# EAGLE library part CONN_SAS_SATA_29P (library GPLIB_CONN)
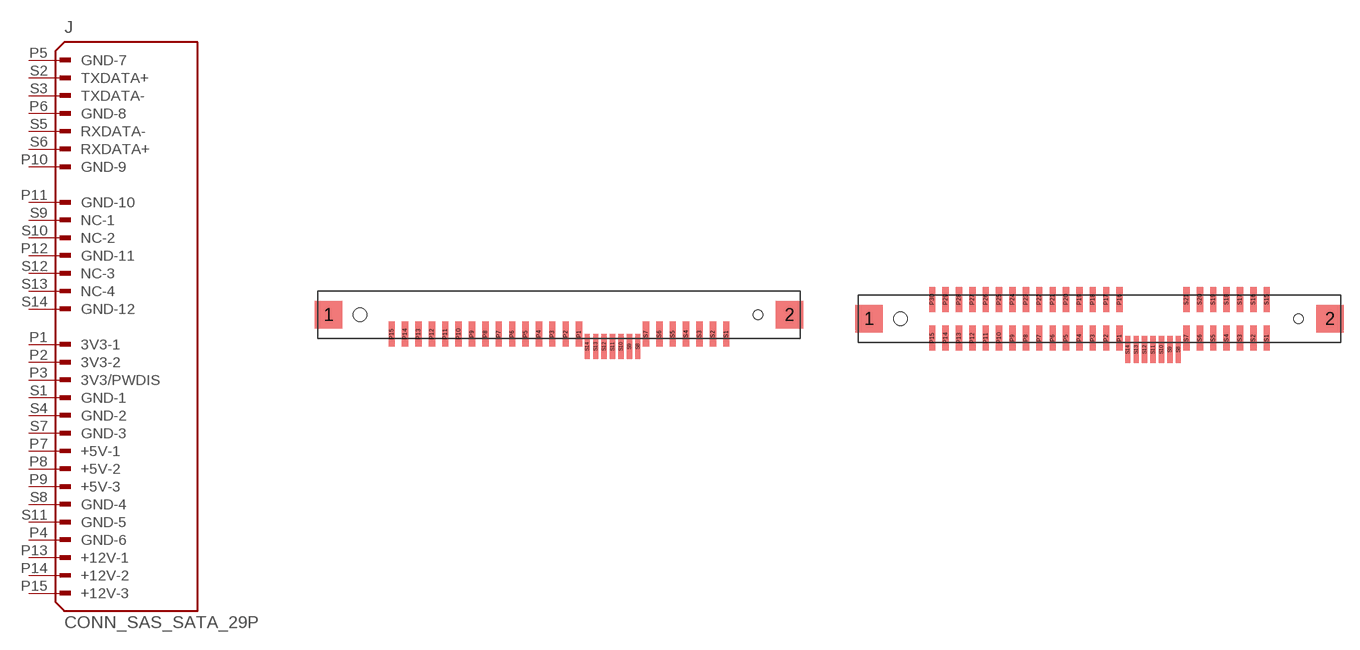
[diagram p7: symbol with the pads of CONN_29P_SAS_RECEPTACLE_SMT; footprints CONN_29P_SAS_RECEPTACLE_SMT, CONN_29P_SAS_RECEPTACLE_SMT_V2]

Designator prefix J

## CONN_SAS_SATA_29P_10077259  [CONN_29P_SAS_RECEPTACLE_SMT]
P1  3V3-1  pas
P2  3V3-2  pas
P3  3V3/PWDIS  pas
P4  GND-6  pas
P5  GND-7  pas
P6  GND-8  pas
P7  +5V-1  pas
P8  +5V-2  pas
P9  +5V-3  pas
P10  GND-9  pas
P11  GND-10  pas
P12  GND-11  pas
P13  +12V-1  pas
P14  +12V-2  pas
P15  +12V-3  pas
S1  GND-1  pas
S2  TXDATA+  pas
S3  TXDATA-  pas
S4  GND-2  pas
S5  RXDATA-  pas
S6  RXDATA+  pas
S7  GND-3  pas
S8  GND-4  pas
S9  NC-1  pas
S10  NC-2  pas
S11  GND-5  pas
S12  NC-3  pas
S13  NC-4  pas
S14  GND-12  pas

## CONN_SAS_SATA_29P_MULTI_PART_FP  [CONN_29P_SAS_RECEPTACLE_SMT_V2]
P1  3V3-1  pas
P2  3V3-2  pas
P3  3V3/PWDIS  pas
P4  GND-6  pas
P5  GND-7  pas
P6  GND-8  pas
P7  +5V-1  pas
P8  +5V-2  pas
P9  +5V-3  pas
P10  GND-9  pas
P11  GND-10  pas
P12  GND-11  pas
P13  +12V-1  pas
P14  +12V-2  pas
P15  +12V-3  pas
P16  3V3-1  pas
P17  3V3-1  pas
P18  3V3-1  pas
P19  GND-1  pas
P20  GND-1  pas
P21  GND-1  pas
P22  +5V-1  pas
P23  +5V-1  pas
P24  +5V-1  pas
P25  GND-1  pas
P26  GND-1  pas
P27  GND-1  pas
P28  +12V-1  pas
P29  +12V-1  pas
P30  +12V-1  pas
S1  GND-1  pas
S2  TXDATA+  pas
S3  TXDATA-  pas
S4  GND-2  pas
S5  RXDATA-  pas
S6  RXDATA+  pas
S7  GND-3  pas
S8  GND-4  pas
S9  NC-1  pas
S10  NC-2  pas
S11  GND-5  pas
S12  NC-3  pas
S13  NC-4  pas
S14  GND-12  pas
S15  GND-1  pas
S16  TXDATA+  pas
S17  TXDATA-  pas
S18  GND-1  pas
S19  RXDATA-  pas
S20  RXDATA+  pas
S21  GND-1  pas

## Footprint CONN_29P_SAS_RECEPTACLE_SMT (pad centres in mm)
smd 2.6 x 2.6: 1 -21.875,0; 2 21.875,0
smd 0.6 x 2.35: P1 1.905,-1.825; P2 0.635,-1.825; P3 -0.635,-1.825; P4 -1.905,-1.825; P5 -3.175,-1.825; P6 -4.445,-1.825; P7 -5.715,-1.825; P8 -6.985,-1.825; P9 -8.255,-1.825; P10 -9.525,-1.825; P11 -10.795,-1.825; P12 -12.065,-1.825; P13 -13.335,-1.825; P14 -14.605,-1.825; P15 -15.875,-1.825; S1 15.875,-1.825; S2 14.605,-1.825; S3 13.335,-1.825; S4 12.065,-1.825; S5 10.795,-1.825; S6 9.525,-1.825; S7 8.255,-1.825
smd 0.5 x 2.35: S8 7.48,-3; S9 6.68,-3; S10 5.88,-3; S11 5.08,-3; S12 4.28,-3; S13 3.48,-3; S14 2.68,-3
hole 1.3 at -18.875,0
hole 0.9 at 18.875,0

## Footprint CONN_29P_SAS_RECEPTACLE_SMT_V2 (pad centres in mm)
smd 2.6 x 2.6: 1 -21.875,0; 2 21.875,0
smd 0.6 x 2.35: P1 1.905,-1.825; P2 0.635,-1.825; P3 -0.635,-1.825; P4 -1.905,-1.825; P5 -3.175,-1.825; P6 -4.445,-1.825; P7 -5.715,-1.825; P8 -6.985,-1.825; P9 -8.255,-1.825; P10 -9.525,-1.825; P11 -10.795,-1.825; P12 -12.065,-1.825; P13 -13.335,-1.825; P14 -14.605,-1.825; P15 -15.875,-1.825; P16 1.905,1.83; P17 0.635,1.83; P18 -0.635,1.83; P19 -1.905,1.83; P20 -3.175,1.83; P21 -4.445,1.83; P22 -5.715,1.83; P23 -6.985,1.83; P24 -8.255,1.83; P25 -9.525,1.83; P26 -10.795,1.83; P27 -12.065,1.83; P28 -13.335,1.83; P29 -14.605,1.83; P30 -15.875,1.83; S1 15.875,-1.825; S2 14.605,-1.825; S3 13.335,-1.825; S4 12.065,-1.825; S5 10.795,-1.825; S6 9.525,-1.825; S7 8.255,-1.825; S15 15.875,1.83; S16 14.605,1.83; S17 13.335,1.83; S18 12.065,1.83; S19 10.795,1.83; S20 9.525,1.83; S21 8.255,1.83
smd 0.5 x 2.52: S8 7.48,-2.92; S9 6.68,-2.92; S10 5.88,-2.92; S11 5.08,-2.92; S12 4.28,-2.92; S13 3.48,-2.92; S14 2.68,-2.92
hole 1.3 at -18.875,0
hole 0.9 at 18.875,0